# Altium schematic symbol library WE-GFH.SchLib: 45 symbols
Pins are listed as number, name and electrical type; pins without a type are passive.

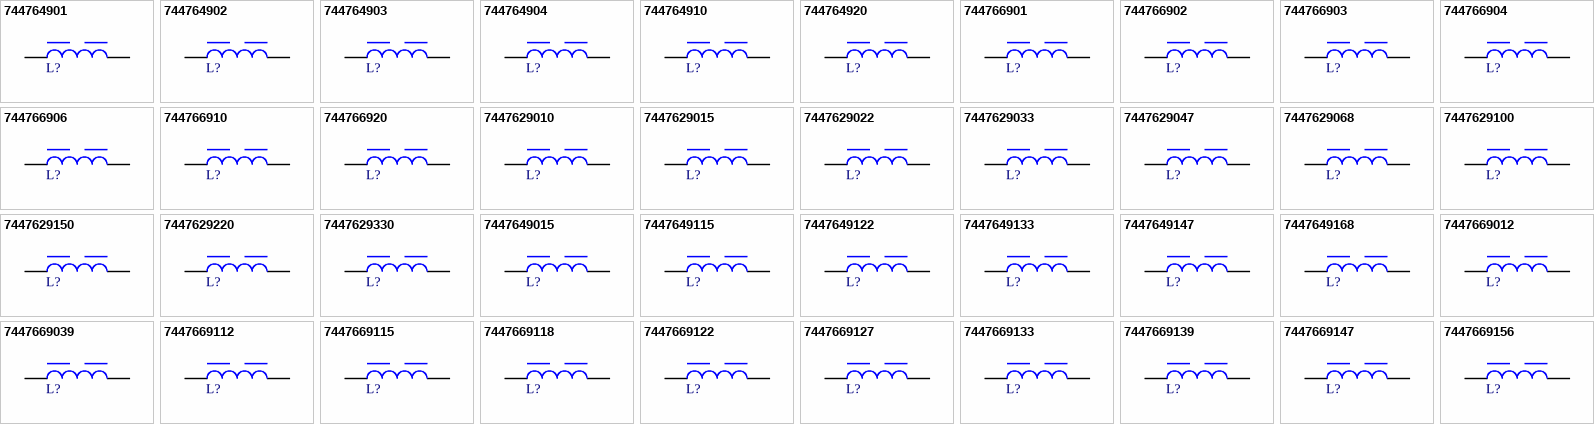
[diagram p0: symbols 744764901 to 7447669156]

## 744764901
designator L?, comment 1µH, 1.55A  (value not drawn)
WE-GFH High Frequency SMT Inductor, size 3225, 1µH, 1.55A, 0.156Ω; Manufacturer Part Number: 744764901; Manufacturer: Wurth Elektronik; Case/Size Code: 3225; DC Resistance: 0.14Ω; Q Factor: 15; Self Resonant Frequency: 175MHz; Category: Unshielded Power Inductors; Match Code: WE-GFH; ComponentLink1Description: Website Link; ComponentLink1URL: https://www.we-online.com/redexpert/article/744764901?ad; ComponentLink2Description: Datasheet Link; ComponentLink2URL: https://www.we-online.com/redexpert/spec/744764901?ad; Mount: Surface Mount; Operating Temperature Max: 125°C; Operating Temperature Min: -40°C; Packaging: Tape and Reel; Length: 3.4mm; Width: 2.5mm; Height: 2.2mm; DC Resistance Max: 0.156Ω; Inductance: 1µH; Rated Current: 1.55A
footprint WE-GFH_3225
simulation model 3225_744764901_1u
pins: 1, 2

## 744764902
designator L?, comment 2.2µH, 1.1A  (value not drawn)
WE-GFH High Frequency SMT Inductor, size 3225, 2.2µH, 1.1A, 0.26Ω; Manufacturer Part Number: 744764902; Manufacturer: Wurth Elektronik; Case/Size Code: 3225; DC Resistance: 0.234Ω; Q Factor: 15; Self Resonant Frequency: 85MHz; Category: Unshielded Power Inductors; Match Code: WE-GFH; ComponentLink1Description: Website Link; ComponentLink1URL: https://www.we-online.com/redexpert/article/744764902?ad; ComponentLink2Description: Datasheet Link; ComponentLink2URL: https://www.we-online.com/redexpert/spec/744764902?ad; Mount: Surface Mount; Operating Temperature Max: 125°C; Operating Temperature Min: -40°C; Packaging: Tape and Reel; Length: 3.4mm; Width: 2.5mm; Height: 2.2mm; DC Resistance Max: 0.26Ω; Inductance: 2.2µH; Rated Current: 1.1A
footprint WE-GFH_3225
simulation model 3225_744764902_2.2u
pins: 1, 2

## 744764903
designator L?, comment 3.3µH, 1.05A  (value not drawn)
WE-GFH High Frequency SMT Inductor, size 3225, 3.3µH, 1.05A, 0.325Ω; Manufacturer Part Number: 744764903; Manufacturer: Wurth Elektronik; Case/Size Code: 3225; DC Resistance: 0.293Ω; Q Factor: 15; Self Resonant Frequency: 70MHz; Category: Unshielded Power Inductors; Match Code: WE-GFH; ComponentLink1Description: Website Link; ComponentLink1URL: https://www.we-online.com/redexpert/article/744764903?ad; ComponentLink2Description: Datasheet Link; ComponentLink2URL: https://www.we-online.com/redexpert/spec/744764903?ad; Mount: Surface Mount; Operating Temperature Max: 125°C; Operating Temperature Min: -40°C; Packaging: Tape and Reel; Length: 3.4mm; Width: 2.5mm; Height: 2.2mm; DC Resistance Max: 0.325Ω; Inductance: 3.3µH; Rated Current: 1.05A
footprint WE-GFH_3225
simulation model 3225_744764903_3.3u
pins: 1, 2

## 744764904
designator L?, comment 4.7µH, 0.8A  (value not drawn)
WE-GFH High Frequency SMT Inductor, size 3225, 4.7µH, 0.8A, 0.52Ω; Manufacturer Part Number: 744764904; Manufacturer: Wurth Elektronik; Case/Size Code: 3225; DC Resistance: 0.468Ω; Q Factor: 15; Self Resonant Frequency: 55MHz; Category: Unshielded Power Inductors; Match Code: WE-GFH; ComponentLink1Description: Website Link; ComponentLink1URL: https://www.we-online.com/redexpert/article/744764904?ad; ComponentLink2Description: Datasheet Link; ComponentLink2URL: https://www.we-online.com/redexpert/spec/744764904?ad; Mount: Surface Mount; Operating Temperature Max: 125°C; Operating Temperature Min: -40°C; Packaging: Tape and Reel; Length: 3.4mm; Width: 2.5mm; Height: 2.2mm; DC Resistance Max: 0.52Ω; Inductance: 4.7µH; Rated Current: 0.8A
footprint WE-GFH_3225
simulation model 3225_744764904_4.7u
pins: 1, 2

## 744764910
designator L?, comment 10µH, 0.5A  (value not drawn)
WE-GFH High Frequency SMT Inductor, size 3225, 10µH, 0.5A, 1.105Ω; Manufacturer Part Number: 744764910; Manufacturer: Wurth Elektronik; Case/Size Code: 3225; DC Resistance: 0.995Ω; Q Factor: 30; Self Resonant Frequency: 35MHz; Category: Unshielded Power Inductors; Match Code: WE-GFH; ComponentLink1Description: Website Link; ComponentLink1URL: https://www.we-online.com/redexpert/article/744764910?ad; ComponentLink2Description: Datasheet Link; ComponentLink2URL: https://www.we-online.com/redexpert/spec/744764910?ad; Mount: Surface Mount; Operating Temperature Max: 125°C; Operating Temperature Min: -40°C; Packaging: Tape and Reel; Length: 3.4mm; Width: 2.5mm; Height: 2.2mm; DC Resistance Max: 1.105Ω; Inductance: 10µH; Rated Current: 0.5A
footprint WE-GFH_3225
simulation model 3225_744764910_10u
pins: 1, 2

## 744764920
designator L?, comment 100µH, 0.16A  (value not drawn)
WE-GFH High Frequency SMT Inductor, size 3225, 100µH, 0.16A, 10.14Ω; Manufacturer Part Number: 744764920; Manufacturer: Wurth Elektronik; Case/Size Code: 3225; DC Resistance: 9.126Ω; Q Factor: 40; Self Resonant Frequency: 10MHz; Category: Unshielded Power Inductors; Match Code: WE-GFH; ComponentLink1Description: Website Link; ComponentLink1URL: https://www.we-online.com/redexpert/article/744764920?ad; ComponentLink2Description: Datasheet Link; ComponentLink2URL: https://www.we-online.com/redexpert/spec/744764920?ad; Mount: Surface Mount; Operating Temperature Max: 125°C; Operating Temperature Min: -40°C; Packaging: Tape and Reel; Length: 3.4mm; Width: 2.5mm; Height: 2.2mm; DC Resistance Max: 10.14Ω; Inductance: 100µH; Rated Current: 0.16A
footprint WE-GFH_3225
simulation model 3225_744764920_100u
pins: 1, 2

## 744766901
designator L?, comment 1µH, 1.9A  (value not drawn)
WE-GFH High Frequency SMT Inductor, size 4532, 1µH, 1.9A, 0.11Ω; Manufacturer Part Number: 744766901; Manufacturer: Wurth Elektronik; Case/Size Code: 4532; DC Resistance: 0.081Ω; Q Factor: 15; Self Resonant Frequency: 265MHz; Category: Unshielded Power Inductors; Match Code: WE-GFH; ComponentLink1Description: Website Link; ComponentLink1URL: https://www.we-online.com/redexpert/article/744766901?ad; ComponentLink2Description: Datasheet Link; ComponentLink2URL: https://www.we-online.com/redexpert/spec/744766901?ad; Mount: Surface Mount; Operating Temperature Max: 125°C; Operating Temperature Min: -40°C; Packaging: Tape and Reel; Length: 4.5mm; Width: 3.2mm; Height: 3.2mm; DC Resistance Max: 0.11Ω; Inductance: 1µH; Rated Current: 1.9A
footprint WE-GFH_4532
simulation model 4532_744766901_1u
pins: 1, 2

## 744766902
designator L?, comment 2.2µH, 1.45A  (value not drawn)
WE-GFH High Frequency SMT Inductor, size 4532, 2.2µH, 1.45A, 0.18Ω; Manufacturer Part Number: 744766902; Manufacturer: Wurth Elektronik; Case/Size Code: 4532; DC Resistance: 0.144Ω; Q Factor: 15; Self Resonant Frequency: 110MHz; Category: Unshielded Power Inductors; Match Code: WE-GFH; ComponentLink1Description: Website Link; ComponentLink1URL: https://www.we-online.com/redexpert/article/744766902?ad; ComponentLink2Description: Datasheet Link; ComponentLink2URL: https://www.we-online.com/redexpert/spec/744766902?ad; Mount: Surface Mount; Operating Temperature Max: 125°C; Operating Temperature Min: -40°C; Packaging: Tape and Reel; Length: 4.5mm; Width: 3.2mm; Height: 3.2mm; DC Resistance Max: 0.18Ω; Inductance: 2.2µH; Rated Current: 1.45A
footprint WE-GFH_4532
simulation model 4532_744766902_2.2u
pins: 1, 2

## 744766903
designator L?, comment 3.3µH, 1.3A  (value not drawn)
WE-GFH High Frequency SMT Inductor, size 4532, 3.3µH, 1.3A, 0.22Ω; Manufacturer Part Number: 744766903; Manufacturer: Wurth Elektronik; Case/Size Code: 4532; DC Resistance: 0.178Ω; Q Factor: 15; Self Resonant Frequency: 55MHz; Category: Unshielded Power Inductors; Match Code: WE-GFH; ComponentLink1Description: Website Link; ComponentLink1URL: https://www.we-online.com/redexpert/article/744766903?ad; ComponentLink2Description: Datasheet Link; ComponentLink2URL: https://www.we-online.com/redexpert/spec/744766903?ad; Mount: Surface Mount; Operating Temperature Max: 125°C; Operating Temperature Min: -40°C; Packaging: Tape and Reel; Length: 4.5mm; Width: 3.2mm; Height: 3.2mm; DC Resistance Max: 0.22Ω; Inductance: 3.3µH; Rated Current: 1.3A
footprint WE-GFH_4532
simulation model 4532_744766903_3.3u
pins: 1, 2

## 744766904
designator L?, comment 4.7µH, 1.2A  (value not drawn)
WE-GFH High Frequency SMT Inductor, size 4532, 4.7µH, 1.2A, 0.27Ω; Manufacturer Part Number: 744766904; Manufacturer: Wurth Elektronik; Case/Size Code: 4532; DC Resistance: 0.215Ω; Q Factor: 15; Self Resonant Frequency: 47MHz; Category: Unshielded Power Inductors; Match Code: WE-GFH; ComponentLink1Description: Website Link; ComponentLink1URL: https://www.we-online.com/redexpert/article/744766904?ad; ComponentLink2Description: Datasheet Link; ComponentLink2URL: https://www.we-online.com/redexpert/spec/744766904?ad; Mount: Surface Mount; Operating Temperature Max: 125°C; Operating Temperature Min: -40°C; Packaging: Tape and Reel; Length: 4.5mm; Width: 3.2mm; Height: 3.2mm; DC Resistance Max: 0.27Ω; Inductance: 4.7µH; Rated Current: 1.2A
footprint WE-GFH_4532
simulation model 4532_744766904_4.7u
pins: 1, 2

## 744766906
designator L?, comment 6.8µH, 1.025A  (value not drawn)
WE-GFH High Frequency SMT Inductor, size 4532, 6.8µH, 1.025A, 0.3Ω; Manufacturer Part Number: 744766906; Manufacturer: Wurth Elektronik; Case/Size Code: 4532; DC Resistance: 0.271Ω; Q Factor: 15; Self Resonant Frequency: 35MHz; Category: Unshielded Power Inductors; Match Code: WE-GFH; ComponentLink1Description: Website Link; ComponentLink1URL: https://www.we-online.com/redexpert/article/744766906?ad; ComponentLink2Description: Datasheet Link; ComponentLink2URL: https://www.we-online.com/redexpert/spec/744766906?ad; Mount: Surface Mount; Operating Temperature Max: 125°C; Operating Temperature Min: -40°C; Packaging: Tape and Reel; Length: 4.5mm; Width: 3.2mm; Height: 3.2mm; DC Resistance Max: 0.3Ω; Inductance: 6.8µH; Rated Current: 1.025A
footprint WE-GFH_4532
simulation model 4532_744766906_6.8u
pins: 1, 2

## 744766910
designator L?, comment 10µH, 0.825A  (value not drawn)
WE-GFH High Frequency SMT Inductor, size 4532, 10µH, 0.825A, 0.5Ω; Manufacturer Part Number: 744766910; Manufacturer: Wurth Elektronik; Case/Size Code: 4532; DC Resistance: 0.405Ω; Q Factor: 25; Self Resonant Frequency: 29MHz; Category: Unshielded Power Inductors; Match Code: WE-GFH; ComponentLink1Description: Website Link; ComponentLink1URL: https://www.we-online.com/redexpert/article/744766910?ad; ComponentLink2Description: Datasheet Link; ComponentLink2URL: https://www.we-online.com/redexpert/spec/744766910?ad; Mount: Surface Mount; Operating Temperature Max: 125°C; Operating Temperature Min: -40°C; Packaging: Tape and Reel; Length: 4.5mm; Width: 3.2mm; Height: 3.2mm; DC Resistance Max: 0.5Ω; Inductance: 10µH; Rated Current: 0.825A
footprint WE-GFH_4532
simulation model 4532_744766910_10u
pins: 1, 2

## 744766920
designator L?, comment 100µH, 0.275A  (value not drawn)
WE-GFH High Frequency SMT Inductor, size 4532, 100µH, 0.275A, 4Ω; Manufacturer Part Number: 744766920; Manufacturer: Wurth Elektronik; Case/Size Code: 4532; DC Resistance: 3.56Ω; Q Factor: 30; Self Resonant Frequency: 8.5MHz; Category: Unshielded Power Inductors; Match Code: WE-GFH; ComponentLink1Description: Website Link; ComponentLink1URL: https://www.we-online.com/redexpert/article/744766920?ad; ComponentLink2Description: Datasheet Link; ComponentLink2URL: https://www.we-online.com/redexpert/spec/744766920?ad; Mount: Surface Mount; Operating Temperature Max: 125°C; Operating Temperature Min: -40°C; Packaging: Tape and Reel; Length: 4.5mm; Width: 3.2mm; Height: 3.2mm; DC Resistance Max: 4Ω; Inductance: 100µH; Rated Current: 0.275A
footprint WE-GFH_4532
simulation model 4532_744766920_100u
pins: 1, 2

## 7447629010
designator L?, comment 1µH, 0.85A  (value not drawn)
WE-GFH High Frequency SMT Inductor, size 2520, 1µH, 0.85A, 0.408Ω; Manufacturer Part Number: 7447629010; Manufacturer: Wurth Elektronik; Case/Size Code: 2520; DC Resistance: 0.335Ω; Q Factor: 20; Self Resonant Frequency: 290MHz; Category: Unshielded Power Inductors; Match Code: WE-GFH; ComponentLink1Description: Website Link; ComponentLink1URL: https://www.we-online.com/redexpert/article/7447629010?ad; ComponentLink2Description: Datasheet Link; ComponentLink2URL: https://www.we-online.com/redexpert/spec/7447629010?ad; Mount: Surface Mount; Operating Temperature Max: 105°C; Operating Temperature Min: -40°C; Packaging: Tape and Reel; Length: 2.5mm; Width: 2mm; Height: 1.8mm; DC Resistance Max: 0.408Ω; Inductance: 1µH; Rated Current: 0.85A
footprint WE-GFH_2520
simulation model 2520_7447629010_1u
pins: 1, 2

## 7447629015
designator L?, comment 1.5µH, 0.75A  (value not drawn)
WE-GFH High Frequency SMT Inductor, size 2520, 1.5µH, 0.75A, 0.504Ω; Manufacturer Part Number: 7447629015; Manufacturer: Wurth Elektronik; Case/Size Code: 2520; DC Resistance: 0.393Ω; Q Factor: 20; Self Resonant Frequency: 220MHz; Category: Unshielded Power Inductors; Match Code: WE-GFH; ComponentLink1Description: Website Link; ComponentLink1URL: https://www.we-online.com/redexpert/article/7447629015?ad; ComponentLink2Description: Datasheet Link; ComponentLink2URL: https://www.we-online.com/redexpert/spec/7447629015?ad; Mount: Surface Mount; Operating Temperature Max: 105°C; Operating Temperature Min: -40°C; Packaging: Tape and Reel; Length: 2.5mm; Width: 2mm; Height: 1.8mm; DC Resistance Max: 0.504Ω; Inductance: 1.5µH; Rated Current: 0.75A
footprint WE-GFH_2520
simulation model 2520_7447629015_1.5u
pins: 1, 2

## 7447629022
designator L?, comment 2.2µH, 0.65A  (value not drawn)
WE-GFH High Frequency SMT Inductor, size 2520, 2.2µH, 0.65A, 0.6Ω; Manufacturer Part Number: 7447629022; Manufacturer: Wurth Elektronik; Case/Size Code: 2520; DC Resistance: 0.51Ω; Q Factor: 20; Self Resonant Frequency: 115MHz; Category: Unshielded Power Inductors; Match Code: WE-GFH; ComponentLink1Description: Website Link; ComponentLink1URL: https://www.we-online.com/redexpert/article/7447629022?ad; ComponentLink2Description: Datasheet Link; ComponentLink2URL: https://www.we-online.com/redexpert/spec/7447629022?ad; Mount: Surface Mount; Operating Temperature Max: 105°C; Operating Temperature Min: -40°C; Packaging: Tape and Reel; Length: 2.5mm; Width: 2mm; Height: 1.8mm; DC Resistance Max: 0.6Ω; Inductance: 2.2µH; Rated Current: 0.65A
footprint WE-GFH_2520
simulation model 2520_7447629022_2.2u
pins: 1, 2

## 7447629033
designator L?, comment 3.3µH, 0.6A  (value not drawn)
WE-GFH High Frequency SMT Inductor, size 2520, 3.3µH, 0.6A, 0.78Ω; Manufacturer Part Number: 7447629033; Manufacturer: Wurth Elektronik; Case/Size Code: 2520; DC Resistance: 0.625Ω; Q Factor: 20; Self Resonant Frequency: 84MHz; Category: Unshielded Power Inductors; Match Code: WE-GFH; ComponentLink1Description: Website Link; ComponentLink1URL: https://www.we-online.com/redexpert/article/7447629033?ad; ComponentLink2Description: Datasheet Link; ComponentLink2URL: https://www.we-online.com/redexpert/spec/7447629033?ad; Mount: Surface Mount; Operating Temperature Max: 105°C; Operating Temperature Min: -40°C; Packaging: Tape and Reel; Length: 2.5mm; Width: 2mm; Height: 1.8mm; DC Resistance Max: 0.78Ω; Inductance: 3.3µH; Rated Current: 0.6A
footprint WE-GFH_2520
simulation model 2520_7447629033_3.3u
pins: 1, 2

## 7447629047
designator L?, comment 4.7µH, 0.51A  (value not drawn)
WE-GFH High Frequency SMT Inductor, size 2520, 4.7µH, 0.51A, 0.96Ω; Manufacturer Part Number: 7447629047; Manufacturer: Wurth Elektronik; Case/Size Code: 2520; DC Resistance: 0.75Ω; Q Factor: 20; Self Resonant Frequency: 72MHz; Category: Unshielded Power Inductors; Match Code: WE-GFH; ComponentLink1Description: Website Link; ComponentLink1URL: https://www.we-online.com/redexpert/article/7447629047?ad; ComponentLink2Description: Datasheet Link; ComponentLink2URL: https://www.we-online.com/redexpert/spec/7447629047?ad; Mount: Surface Mount; Operating Temperature Max: 105°C; Operating Temperature Min: -40°C; Packaging: Tape and Reel; Length: 2.5mm; Width: 2mm; Height: 1.8mm; DC Resistance Max: 0.96Ω; Inductance: 4.7µH; Rated Current: 0.51A
footprint WE-GFH_2520
simulation model 2520_7447629047_4.7u
pins: 1, 2

## 7447629068
designator L?, comment 6.8µH, 0.45A  (value not drawn)
WE-GFH High Frequency SMT Inductor, size 2520, 6.8µH, 0.45A, 1.2Ω; Manufacturer Part Number: 7447629068; Manufacturer: Wurth Elektronik; Case/Size Code: 2520; DC Resistance: 0.96Ω; Q Factor: 20; Self Resonant Frequency: 61MHz; Category: Unshielded Power Inductors; Match Code: WE-GFH; ComponentLink1Description: Website Link; ComponentLink1URL: https://www.we-online.com/redexpert/article/7447629068?ad; ComponentLink2Description: Datasheet Link; ComponentLink2URL: https://www.we-online.com/redexpert/spec/7447629068?ad; Mount: Surface Mount; Operating Temperature Max: 105°C; Operating Temperature Min: -40°C; Packaging: Tape and Reel; Length: 2.5mm; Width: 2mm; Height: 1.8mm; DC Resistance Max: 1.2Ω; Inductance: 6.8µH; Rated Current: 0.45A
footprint WE-GFH_2520
simulation model 2520_7447629068_6.8u
pins: 1, 2

## 7447629100
designator L?, comment 10µH, 0.34A  (value not drawn)
WE-GFH High Frequency SMT Inductor, size 2520, 10µH, 0.34A, 2.028Ω; Manufacturer Part Number: 7447629100; Manufacturer: Wurth Elektronik; Case/Size Code: 2520; DC Resistance: 1.7Ω; Q Factor: 30; Self Resonant Frequency: 44MHz; Category: Unshielded Power Inductors; Match Code: WE-GFH; ComponentLink1Description: Website Link; ComponentLink1URL: https://www.we-online.com/redexpert/article/7447629100?ad; ComponentLink2Description: Datasheet Link; ComponentLink2URL: https://www.we-online.com/redexpert/spec/7447629100?ad; Mount: Surface Mount; Operating Temperature Max: 105°C; Operating Temperature Min: -40°C; Packaging: Tape and Reel; Length: 2.5mm; Width: 2mm; Height: 1.8mm; DC Resistance Max: 2.028Ω; Inductance: 10µH; Rated Current: 0.34A
footprint WE-GFH_2520
simulation model 2520_7447629100_10u
pins: 1, 2

## 7447629150
designator L?, comment 15µH, 0.325A  (value not drawn)
WE-GFH High Frequency SMT Inductor, size 2520, 15µH, 0.325A, 2.64Ω; Manufacturer Part Number: 7447629150; Manufacturer: Wurth Elektronik; Case/Size Code: 2520; DC Resistance: 2.11Ω; Q Factor: 30; Self Resonant Frequency: 33MHz; Category: Unshielded Power Inductors; Match Code: WE-GFH; ComponentLink1Description: Website Link; ComponentLink1URL: https://www.we-online.com/redexpert/article/7447629150?ad; ComponentLink2Description: Datasheet Link; ComponentLink2URL: https://www.we-online.com/redexpert/spec/7447629150?ad; Mount: Surface Mount; Operating Temperature Max: 105°C; Operating Temperature Min: -40°C; Packaging: Tape and Reel; Length: 2.5mm; Width: 2mm; Height: 1.8mm; DC Resistance Max: 2.64Ω; Inductance: 15µH; Rated Current: 0.325A
footprint WE-GFH_2520
simulation model 2520_7447629150_15u
pins: 1, 2

## 7447629220
designator L?, comment 22µH, 0.265A  (value not drawn)
WE-GFH High Frequency SMT Inductor, size 2520, 22µH, 0.265A, 3.36Ω; Manufacturer Part Number: 7447629220; Manufacturer: Wurth Elektronik; Case/Size Code: 2520; DC Resistance: 2.762Ω; Q Factor: 30; Self Resonant Frequency: 29MHz; Category: Unshielded Power Inductors; Match Code: WE-GFH; ComponentLink1Description: Website Link; ComponentLink1URL: https://www.we-online.com/redexpert/article/7447629220?ad; ComponentLink2Description: Datasheet Link; ComponentLink2URL: https://www.we-online.com/redexpert/spec/7447629220?ad; Mount: Surface Mount; Operating Temperature Max: 105°C; Operating Temperature Min: -40°C; Packaging: Tape and Reel; Length: 2.5mm; Width: 2mm; Height: 1.8mm; DC Resistance Max: 3.36Ω; Inductance: 22µH; Rated Current: 0.265A
footprint WE-GFH_2520
simulation model 2520_7447629220_22u
pins: 1, 2

## 7447629330
designator L?, comment 33µH, 0.21A  (value not drawn)
WE-GFH High Frequency SMT Inductor, size 2520, 33µH, 0.21A, 5.04Ω; Manufacturer Part Number: 7447629330; Manufacturer: Wurth Elektronik; Case/Size Code: 2520; DC Resistance: 4.3Ω; Q Factor: 30; Self Resonant Frequency: 22MHz; Category: Unshielded Power Inductors; Match Code: WE-GFH; ComponentLink1Description: Website Link; ComponentLink1URL: https://www.we-online.com/redexpert/article/7447629330?ad; ComponentLink2Description: Datasheet Link; ComponentLink2URL: https://www.we-online.com/redexpert/spec/7447629330?ad; Mount: Surface Mount; Operating Temperature Max: 105°C; Operating Temperature Min: -40°C; Packaging: Tape and Reel; Length: 2.5mm; Width: 2mm; Height: 1.8mm; DC Resistance Max: 5.04Ω; Inductance: 33µH; Rated Current: 0.21A
footprint WE-GFH_2520
simulation model 2520_7447629330_33u
pins: 1, 2

## 7447649015
designator L?, comment 1.5µH, 1.4A  (value not drawn)
WE-GFH High Frequency SMT Inductor, size 3225, 1.5µH, 1.4A, 0.195Ω; Manufacturer Part Number: 7447649015; Manufacturer: Wurth Elektronik; Case/Size Code: 3225; DC Resistance: 0.176Ω; Q Factor: 15; Self Resonant Frequency: 100MHz; Category: Unshielded Power Inductors; Match Code: WE-GFH; ComponentLink1Description: Website Link; ComponentLink1URL: https://www.we-online.com/redexpert/article/7447649015?ad; ComponentLink2Description: Datasheet Link; ComponentLink2URL: https://www.we-online.com/redexpert/spec/7447649015?ad; Mount: Surface Mount; Operating Temperature Max: 125°C; Operating Temperature Min: -40°C; Packaging: Tape and Reel; Length: 3.4mm; Width: 2.5mm; Height: 2.2mm; DC Resistance Max: 0.195Ω; Inductance: 1.5µH; Rated Current: 1.4A
footprint WE-GFH_3225
simulation model 3225_7447649015_1.5u
pins: 1, 2

## 7447649115
designator L?, comment 15µH, 0.45A  (value not drawn)
WE-GFH High Frequency SMT Inductor, size 3225, 15µH, 0.45A, 1.69Ω; Manufacturer Part Number: 7447649115; Manufacturer: Wurth Elektronik; Case/Size Code: 3225; DC Resistance: 1.521Ω; Q Factor: 30; Self Resonant Frequency: 30MHz; Category: Unshielded Power Inductors; Match Code: WE-GFH; ComponentLink1Description: Website Link; ComponentLink1URL: https://www.we-online.com/redexpert/article/7447649115?ad; ComponentLink2Description: Datasheet Link; ComponentLink2URL: https://www.we-online.com/redexpert/spec/7447649115?ad; Mount: Surface Mount; Operating Temperature Max: 125°C; Operating Temperature Min: -40°C; Packaging: Tape and Reel; Length: 3.4mm; Width: 2.5mm; Height: 2.2mm; DC Resistance Max: 1.69Ω; Inductance: 15µH; Rated Current: 0.45A
footprint WE-GFH_3225
simulation model 3225_7447649115_15u
pins: 1, 2

## 7447649122
designator L?, comment 22µH, 0.4A  (value not drawn)
WE-GFH High Frequency SMT Inductor, size 3225, 22µH, 0.4A, 2.6Ω; Manufacturer Part Number: 7447649122; Manufacturer: Wurth Elektronik; Case/Size Code: 3225; DC Resistance: 2.34Ω; Q Factor: 35; Self Resonant Frequency: 22MHz; Category: Unshielded Power Inductors; Match Code: WE-GFH; ComponentLink1Description: Website Link; ComponentLink1URL: https://www.we-online.com/redexpert/article/7447649122?ad; ComponentLink2Description: Datasheet Link; ComponentLink2URL: https://www.we-online.com/redexpert/spec/7447649122?ad; Mount: Surface Mount; Operating Temperature Max: 125°C; Operating Temperature Min: -40°C; Packaging: Tape and Reel; Length: 3.4mm; Width: 2.5mm; Height: 2.2mm; DC Resistance Max: 2.6Ω; Inductance: 22µH; Rated Current: 0.4A
footprint WE-GFH_3225
simulation model 3225_7447649122_22u
pins: 1, 2

## 7447649133
designator L?, comment 33µH, 0.32A  (value not drawn)
WE-GFH High Frequency SMT Inductor, size 3225, 33µH, 0.32A, 3.64Ω; Manufacturer Part Number: 7447649133; Manufacturer: Wurth Elektronik; Case/Size Code: 3225; DC Resistance: 3.276Ω; Q Factor: 35; Self Resonant Frequency: 20MHz; Category: Unshielded Power Inductors; Match Code: WE-GFH; ComponentLink1Description: Website Link; ComponentLink1URL: https://www.we-online.com/redexpert/article/7447649133?ad; ComponentLink2Description: Datasheet Link; ComponentLink2URL: https://www.we-online.com/redexpert/spec/7447649133?ad; Mount: Surface Mount; Operating Temperature Max: 125°C; Operating Temperature Min: -40°C; Packaging: Tape and Reel; Length: 3.4mm; Width: 2.5mm; Height: 2.2mm; DC Resistance Max: 3.64Ω; Inductance: 33µH; Rated Current: 0.32A
footprint WE-GFH_3225
simulation model 3225_7447649133_33u
pins: 1, 2

## 7447649147
designator L?, comment 47µH, 0.25A  (value not drawn)
WE-GFH High Frequency SMT Inductor, size 3225, 47µH, 0.25A, 5.46Ω; Manufacturer Part Number: 7447649147; Manufacturer: Wurth Elektronik; Case/Size Code: 3225; DC Resistance: 4.914Ω; Q Factor: 35; Self Resonant Frequency: 15MHz; Category: Unshielded Power Inductors; Match Code: WE-GFH; ComponentLink1Description: Website Link; ComponentLink1URL: https://www.we-online.com/redexpert/article/7447649147?ad; ComponentLink2Description: Datasheet Link; ComponentLink2URL: https://www.we-online.com/redexpert/spec/7447649147?ad; Mount: Surface Mount; Operating Temperature Max: 125°C; Operating Temperature Min: -40°C; Packaging: Tape and Reel; Length: 3.4mm; Width: 2.5mm; Height: 2.2mm; DC Resistance Max: 5.46Ω; Inductance: 47µH; Rated Current: 0.25A
footprint WE-GFH_3225
simulation model 3225_7447649147_47u
pins: 1, 2

## 7447649168
designator L?, comment 68µH, 0.225A  (value not drawn)
WE-GFH High Frequency SMT Inductor, size 3225, 68µH, 0.225A, 8.45Ω; Manufacturer Part Number: 7447649168; Manufacturer: Wurth Elektronik; Case/Size Code: 3225; DC Resistance: 7.605Ω; Q Factor: 40; Self Resonant Frequency: 12MHz; Category: Unshielded Power Inductors; Match Code: WE-GFH; ComponentLink1Description: Website Link; ComponentLink1URL: https://www.we-online.com/redexpert/article/7447649168?ad; ComponentLink2Description: Datasheet Link; ComponentLink2URL: https://www.we-online.com/redexpert/spec/7447649168?ad; Mount: Surface Mount; Operating Temperature Max: 125°C; Operating Temperature Min: -40°C; Packaging: Tape and Reel; Length: 3.4mm; Width: 2.5mm; Height: 2.2mm; DC Resistance Max: 8.45Ω; Inductance: 68µH; Rated Current: 0.225A
footprint WE-GFH_3225
simulation model 3225_7447649168_68u
pins: 1, 2

## 7447669012
designator L?, comment 1.2µH, 1.8A  (value not drawn)
WE-GFH High Frequency SMT Inductor, size 4532, 1.2µH, 1.8A, 0.12Ω; Manufacturer Part Number: 7447669012; Manufacturer: Wurth Elektronik; Case/Size Code: 4532; DC Resistance: 0.093Ω; Q Factor: 15; Self Resonant Frequency: 180MHz; Category: Unshielded Power Inductors; Match Code: WE-GFH; ComponentLink1Description: Website Link; ComponentLink1URL: https://www.we-online.com/redexpert/article/7447669012?ad; ComponentLink2Description: Datasheet Link; ComponentLink2URL: https://www.we-online.com/redexpert/spec/7447669012?ad; Mount: Surface Mount; Operating Temperature Max: 125°C; Operating Temperature Min: -40°C; Packaging: Tape and Reel; Length: 4.5mm; Width: 3.2mm; Height: 3.2mm; DC Resistance Max: 0.12Ω; Inductance: 1.2µH; Rated Current: 1.8A
footprint WE-GFH_4532
simulation model 4532_7447669012_1.2u
pins: 1, 2

## 7447669039
designator L?, comment 3.9µH, 1.25A  (value not drawn)
WE-GFH High Frequency SMT Inductor, size 4532, 3.9µH, 1.25A, 0.24Ω; Manufacturer Part Number: 7447669039; Manufacturer: Wurth Elektronik; Case/Size Code: 4532; DC Resistance: 0.2Ω; Q Factor: 15; Self Resonant Frequency: 50MHz; Category: Unshielded Power Inductors; Match Code: WE-GFH; ComponentLink1Description: Website Link; ComponentLink1URL: https://www.we-online.com/redexpert/article/7447669039?ad; ComponentLink2Description: Datasheet Link; ComponentLink2URL: https://www.we-online.com/redexpert/spec/7447669039?ad; Mount: Surface Mount; Operating Temperature Max: 125°C; Operating Temperature Min: -40°C; Packaging: Tape and Reel; Length: 4.5mm; Width: 3.2mm; Height: 3.2mm; DC Resistance Max: 0.24Ω; Inductance: 3.9µH; Rated Current: 1.25A
footprint WE-GFH_4532
simulation model 4532_7447669039_3.9u
pins: 1, 2

## 7447669112
designator L?, comment 12µH, 0.81A  (value not drawn)
WE-GFH High Frequency SMT Inductor, size 4532, 12µH, 0.81A, 0.6Ω; Manufacturer Part Number: 7447669112; Manufacturer: Wurth Elektronik; Case/Size Code: 4532; DC Resistance: 0.444Ω; Q Factor: 25; Self Resonant Frequency: 28MHz; Category: Unshielded Power Inductors; Match Code: WE-GFH; ComponentLink1Description: Website Link; ComponentLink1URL: https://www.we-online.com/redexpert/article/7447669112?ad; ComponentLink2Description: Datasheet Link; ComponentLink2URL: https://www.we-online.com/redexpert/spec/7447669112?ad; Mount: Surface Mount; Operating Temperature Max: 125°C; Operating Temperature Min: -40°C; Packaging: Tape and Reel; Length: 4.5mm; Width: 3.2mm; Height: 3.2mm; DC Resistance Max: 0.6Ω; Inductance: 12µH; Rated Current: 0.81A
footprint WE-GFH_4532
simulation model 4532_7447669112_12u
pins: 1, 2

## 7447669115
designator L?, comment 15µH, 0.8A  (value not drawn)
WE-GFH High Frequency SMT Inductor, size 4532, 15µH, 0.8A, 0.7Ω; Manufacturer Part Number: 7447669115; Manufacturer: Wurth Elektronik; Case/Size Code: 4532; DC Resistance: 0.511Ω; Q Factor: 25; Self Resonant Frequency: 24MHz; Category: Unshielded Power Inductors; Match Code: WE-GFH; ComponentLink1Description: Website Link; ComponentLink1URL: https://www.we-online.com/redexpert/article/7447669115?ad; ComponentLink2Description: Datasheet Link; ComponentLink2URL: https://www.we-online.com/redexpert/spec/7447669115?ad; Mount: Surface Mount; Operating Temperature Max: 125°C; Operating Temperature Min: -40°C; Packaging: Tape and Reel; Length: 4.5mm; Width: 3.2mm; Height: 3.2mm; DC Resistance Max: 0.7Ω; Inductance: 15µH; Rated Current: 0.8A
footprint WE-GFH_4532
simulation model 4532_7447669115_15u
pins: 1, 2

## 7447669118
designator L?, comment 18µH, 0.7A  (value not drawn)
WE-GFH High Frequency SMT Inductor, size 4532, 18µH, 0.7A, 0.8Ω; Manufacturer Part Number: 7447669118; Manufacturer: Wurth Elektronik; Case/Size Code: 4532; DC Resistance: 0.654Ω; Q Factor: 25; Self Resonant Frequency: 21MHz; Category: Unshielded Power Inductors; Match Code: WE-GFH; ComponentLink1Description: Website Link; ComponentLink1URL: https://www.we-online.com/redexpert/article/7447669118?ad; ComponentLink2Description: Datasheet Link; ComponentLink2URL: https://www.we-online.com/redexpert/spec/7447669118?ad; Mount: Surface Mount; Operating Temperature Max: 125°C; Operating Temperature Min: -40°C; Packaging: Tape and Reel; Length: 4.5mm; Width: 3.2mm; Height: 3.2mm; DC Resistance Max: 0.8Ω; Inductance: 18µH; Rated Current: 0.7A
footprint WE-GFH_4532
simulation model 4532_7447669118_18u
pins: 1, 2

## 7447669122
designator L?, comment 22µH, 0.65A  (value not drawn)
WE-GFH High Frequency SMT Inductor, size 4532, 22µH, 0.65A, 0.9Ω; Manufacturer Part Number: 7447669122; Manufacturer: Wurth Elektronik; Case/Size Code: 4532; DC Resistance: 0.767Ω; Q Factor: 25; Self Resonant Frequency: 20MHz; Category: Unshielded Power Inductors; Match Code: WE-GFH; ComponentLink1Description: Website Link; ComponentLink1URL: https://www.we-online.com/redexpert/article/7447669122?ad; ComponentLink2Description: Datasheet Link; ComponentLink2URL: https://www.we-online.com/redexpert/spec/7447669122?ad; Mount: Surface Mount; Operating Temperature Max: 125°C; Operating Temperature Min: -40°C; Packaging: Tape and Reel; Length: 4.5mm; Width: 3.2mm; Height: 3.2mm; DC Resistance Max: 0.9Ω; Inductance: 22µH; Rated Current: 0.65A
footprint WE-GFH_4532
simulation model 4532_7447669122_22u
pins: 1, 2

## 7447669127
designator L?, comment 27µH, 0.575A  (value not drawn)
WE-GFH High Frequency SMT Inductor, size 4532, 27µH, 0.575A, 1.2Ω; Manufacturer Part Number: 7447669127; Manufacturer: Wurth Elektronik; Case/Size Code: 4532; DC Resistance: 0.849Ω; Q Factor: 25; Self Resonant Frequency: 17MHz; Category: Unshielded Power Inductors; Match Code: WE-GFH; ComponentLink1Description: Website Link; ComponentLink1URL: https://www.we-online.com/redexpert/article/7447669127?ad; ComponentLink2Description: Datasheet Link; ComponentLink2URL: https://www.we-online.com/redexpert/spec/7447669127?ad; Mount: Surface Mount; Operating Temperature Max: 125°C; Operating Temperature Min: -40°C; Packaging: Tape and Reel; Length: 4.5mm; Width: 3.2mm; Height: 3.2mm; DC Resistance Max: 1.2Ω; Inductance: 27µH; Rated Current: 0.575A
footprint WE-GFH_4532
simulation model 4532_7447669127_27u
pins: 1, 2

## 7447669133
designator L?, comment 33µH, 0.525A  (value not drawn)
WE-GFH High Frequency SMT Inductor, size 4532, 33µH, 0.525A, 1.4Ω; Manufacturer Part Number: 7447669133; Manufacturer: Wurth Elektronik; Case/Size Code: 4532; DC Resistance: 1.03Ω; Q Factor: 25; Self Resonant Frequency: 16.5MHz; Category: Unshielded Power Inductors; Match Code: WE-GFH; ComponentLink1Description: Website Link; ComponentLink1URL: https://www.we-online.com/redexpert/article/7447669133?ad; ComponentLink2Description: Datasheet Link; ComponentLink2URL: https://www.we-online.com/redexpert/spec/7447669133?ad; Mount: Surface Mount; Operating Temperature Max: 125°C; Operating Temperature Min: -40°C; Packaging: Tape and Reel; Length: 4.5mm; Width: 3.2mm; Height: 3.2mm; DC Resistance Max: 1.4Ω; Inductance: 33µH; Rated Current: 0.525A
footprint WE-GFH_4532
simulation model 4532_7447669133_33u
pins: 1, 2

## 7447669139
designator L?, comment 39µH, 0.46A  (value not drawn)
WE-GFH High Frequency SMT Inductor, size 4532, 39µH, 0.46A, 1.6Ω; Manufacturer Part Number: 7447669139; Manufacturer: Wurth Elektronik; Case/Size Code: 4532; DC Resistance: 1.32Ω; Q Factor: 30; Self Resonant Frequency: 14.5MHz; Category: Unshielded Power Inductors; Match Code: WE-GFH; ComponentLink1Description: Website Link; ComponentLink1URL: https://www.we-online.com/redexpert/article/7447669139?ad; ComponentLink2Description: Datasheet Link; ComponentLink2URL: https://www.we-online.com/redexpert/spec/7447669139?ad; Mount: Surface Mount; Operating Temperature Max: 125°C; Operating Temperature Min: -40°C; Packaging: Tape and Reel; Length: 4.5mm; Width: 3.2mm; Height: 3.2mm; DC Resistance Max: 1.6Ω; Inductance: 39µH; Rated Current: 0.46A
footprint WE-GFH_4532
simulation model 4532_7447669139_39u
pins: 1, 2

## 7447669147
designator L?, comment 47µH, 0.425A  (value not drawn)
WE-GFH High Frequency SMT Inductor, size 4532, 47µH, 0.425A, 1.9Ω; Manufacturer Part Number: 7447669147; Manufacturer: Wurth Elektronik; Case/Size Code: 4532; DC Resistance: 1.46Ω; Q Factor: 30; Self Resonant Frequency: 14MHz; Category: Unshielded Power Inductors; Match Code: WE-GFH; ComponentLink1Description: Website Link; ComponentLink1URL: https://www.we-online.com/redexpert/article/7447669147?ad; ComponentLink2Description: Datasheet Link; ComponentLink2URL: https://www.we-online.com/redexpert/spec/7447669147?ad; Mount: Surface Mount; Operating Temperature Max: 125°C; Operating Temperature Min: -40°C; Packaging: Tape and Reel; Length: 4.5mm; Width: 3.2mm; Height: 3.2mm; DC Resistance Max: 1.9Ω; Inductance: 47µH; Rated Current: 0.425A
footprint WE-GFH_4532
simulation model 4532_7447669147_47u
pins: 1, 2

## 7447669156
designator L?, comment 56µH, 0.4A  (value not drawn)
WE-GFH High Frequency SMT Inductor, size 4532, 56µH, 0.4A, 2.2Ω; Manufacturer Part Number: 7447669156; Manufacturer: Wurth Elektronik; Case/Size Code: 4532; DC Resistance: 1.94Ω; Q Factor: 30; Self Resonant Frequency: 11MHz; Category: Unshielded Power Inductors; Match Code: WE-GFH; ComponentLink1Description: Website Link; ComponentLink1URL: https://www.we-online.com/redexpert/article/7447669156?ad; ComponentLink2Description: Datasheet Link; ComponentLink2URL: https://www.we-online.com/redexpert/spec/7447669156?ad; Mount: Surface Mount; Operating Temperature Max: 125°C; Operating Temperature Min: -40°C; Packaging: Tape and Reel; Length: 4.5mm; Width: 3.2mm; Height: 3.2mm; DC Resistance Max: 2.2Ω; Inductance: 56µH; Rated Current: 0.4A
footprint WE-GFH_4532
simulation model 4532_7447669156_56u
pins: 1, 2

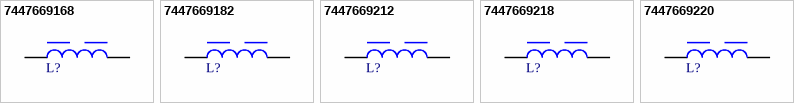
[diagram p1: symbols 7447669168 to 7447669220]

## 7447669168
designator L?, comment 68µH, 0.35A  (value not drawn)
WE-GFH High Frequency SMT Inductor, size 4532, 68µH, 0.35A, 2.6Ω; Manufacturer Part Number: 7447669168; Manufacturer: Wurth Elektronik; Case/Size Code: 4532; DC Resistance: 2.195Ω; Q Factor: 30; Self Resonant Frequency: 10.5MHz; Category: Unshielded Power Inductors; Match Code: WE-GFH; ComponentLink1Description: Website Link; ComponentLink1URL: https://www.we-online.com/redexpert/article/7447669168?ad; ComponentLink2Description: Datasheet Link; ComponentLink2URL: https://www.we-online.com/redexpert/spec/7447669168?ad; Mount: Surface Mount; Operating Temperature Max: 125°C; Operating Temperature Min: -40°C; Packaging: Tape and Reel; Length: 4.5mm; Width: 3.2mm; Height: 3.2mm; DC Resistance Max: 2.6Ω; Inductance: 68µH; Rated Current: 0.35A
footprint WE-GFH_4532
simulation model 4532_7447669168_68u
pins: 1, 2

## 7447669182
designator L?, comment 82µH, 0.3A  (value not drawn)
WE-GFH High Frequency SMT Inductor, size 4532, 82µH, 0.3A, 3.5Ω; Manufacturer Part Number: 7447669182; Manufacturer: Wurth Elektronik; Case/Size Code: 4532; DC Resistance: 3.11Ω; Q Factor: 30; Self Resonant Frequency: 10MHz; Category: Unshielded Power Inductors; Match Code: WE-GFH; ComponentLink1Description: Website Link; ComponentLink1URL: https://www.we-online.com/redexpert/article/7447669182?ad; ComponentLink2Description: Datasheet Link; ComponentLink2URL: https://www.we-online.com/redexpert/spec/7447669182?ad; Mount: Surface Mount; Operating Temperature Max: 125°C; Operating Temperature Min: -40°C; Packaging: Tape and Reel; Length: 4.5mm; Width: 3.2mm; Height: 3.2mm; DC Resistance Max: 3.5Ω; Inductance: 82µH; Rated Current: 0.3A
footprint WE-GFH_4532
simulation model 4532_7447669182_82u
pins: 1, 2

## 7447669212
designator L?, comment 120µH, 0.235A  (value not drawn)
WE-GFH High Frequency SMT Inductor, size 4532, 120µH, 0.235A, 4.5Ω; Manufacturer Part Number: 7447669212; Manufacturer: Wurth Elektronik; Case/Size Code: 4532; DC Resistance: 4.185Ω; Q Factor: 30; Self Resonant Frequency: 8MHz; Category: Unshielded Power Inductors; Match Code: WE-GFH; ComponentLink1Description: Website Link; ComponentLink1URL: https://www.we-online.com/redexpert/article/7447669212?ad; ComponentLink2Description: Datasheet Link; ComponentLink2URL: https://www.we-online.com/redexpert/spec/7447669212?ad; Mount: Surface Mount; Operating Temperature Max: 125°C; Operating Temperature Min: -40°C; Packaging: Tape and Reel; Length: 4.5mm; Width: 3.2mm; Height: 3.2mm; DC Resistance Max: 4.5Ω; Inductance: 120µH; Rated Current: 0.235A
footprint WE-GFH_4532
simulation model 4532_7447669212_120u
pins: 1, 2

## 7447669218
designator L?, comment 180µH, 0.22A  (value not drawn)
WE-GFH High Frequency SMT Inductor, size 4532, 180µH, 0.22A, 7.5Ω; Manufacturer Part Number: 7447669218; Manufacturer: Wurth Elektronik; Case/Size Code: 4532; DC Resistance: 6.15Ω; Q Factor: 30; Self Resonant Frequency: 6.5MHz; Category: Unshielded Power Inductors; Match Code: WE-GFH; ComponentLink1Description: Website Link; ComponentLink1URL: https://www.we-online.com/redexpert/article/7447669218?ad; ComponentLink2Description: Datasheet Link; ComponentLink2URL: https://www.we-online.com/redexpert/spec/7447669218?ad; Mount: Surface Mount; Operating Temperature Max: 125°C; Operating Temperature Min: -40°C; Packaging: Tape and Reel; Length: 4.5mm; Width: 3.2mm; Height: 3.2mm; DC Resistance Max: 7.5Ω; Inductance: 180µH; Rated Current: 0.22A
footprint WE-GFH_4532
simulation model 4532_7447669218_180u
pins: 1, 2

## 7447669220
designator L?, comment 220µH, 0.2A  (value not drawn)
WE-GFH High Frequency SMT Inductor, size 4532, 220µH, 0.2A, 9Ω; Manufacturer Part Number: 7447669220; Manufacturer: Wurth Elektronik; Case/Size Code: 4532; DC Resistance: 6.94Ω; Q Factor: 30; Self Resonant Frequency: 6MHz; Category: Unshielded Power Inductors; Match Code: WE-GFH; ComponentLink1Description: Website Link; ComponentLink1URL: https://www.we-online.com/redexpert/article/7447669220?ad; ComponentLink2Description: Datasheet Link; ComponentLink2URL: https://www.we-online.com/redexpert/spec/7447669220?ad; Mount: Surface Mount; Operating Temperature Max: 125°C; Operating Temperature Min: -40°C; Packaging: Tape and Reel; Length: 4.5mm; Width: 3.2mm; Height: 3.2mm; DC Resistance Max: 9Ω; Inductance: 220µH; Rated Current: 0.2A
footprint WE-GFH_4532
simulation model 4532_7447669220_220u
pins: 1, 2